# EAGLE library part MICRO-USB (library SmartWatch)
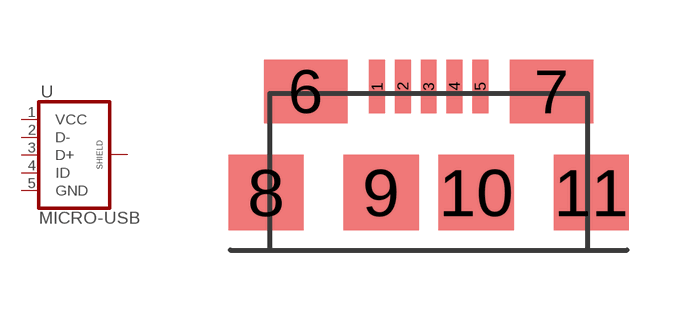
[diagram p5: symbol with the pads of MICRO-USB; footprint MICRO-USB]

Designator prefix -

## MICRO-USB  [MICRO-USB]
1  VCC
2  D-
3  D+
4  ID
5  GND
6  SHIELD
7  SHIELD
8  SHIELD
9  SHIELD
10  SHIELD
11  SHIELD

## Footprint MICRO-USB (pad centres in mm)
smd 0.4 x 1.35: 1 -1.3,2.675; 2 -0.65,2.675; 3 0,2.675; 4 0.65,2.675; 5 1.3,2.675
smd 2.1 x 1.6: 6 -3.1,2.55; 7 3.1,2.55
smd 1.9 x 1.9: 8 -4.1,0; 9 -1.2,0; 10 1.2,0; 11 4.1,0